# Altium footprint library 0603 - LED.PcbLib: 1 footprints
Each footprint in its own frame and in the unit in brackets; x right, y up, seen from the top. Pads: shape width x height; smd on the part's side, far side on the other; paste and mask are expansions set on the pad; w line width, h text height; cw(c..) or ccw(c..) is an arc to the next point about the centre after c.
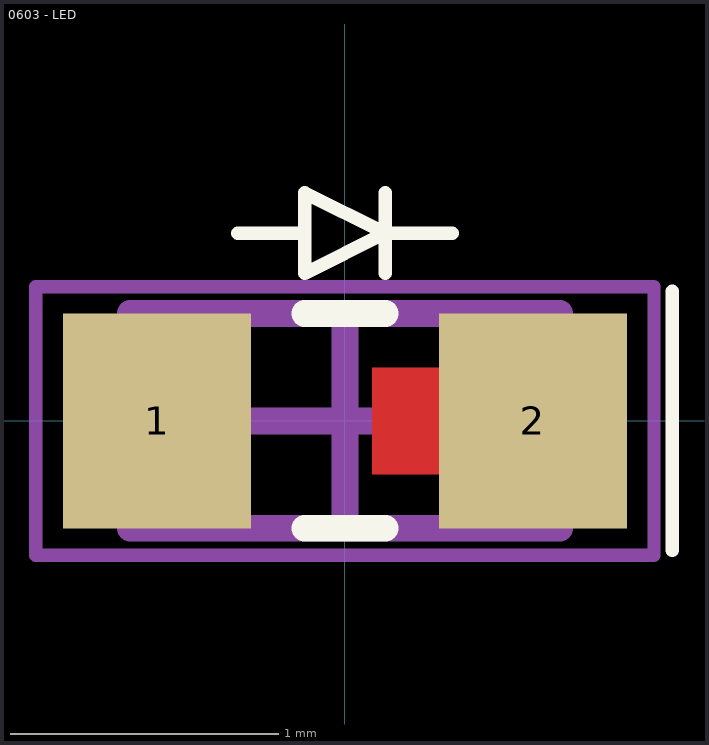
[diagram p0: the footprint, top view; thin cyan lines are the x and y axes]

## 0603 - LED [mm]
pads (2):
  rect 0.7x0.8 smd: 1(-0.7,0) 2(0.7,0)
Top Layer:
  rectangle: 0.1,-0.2 0.355,0.2
Top Overlay:
  lines w0.05: -0.4,0.7 -0.15,0.7 ; 0.15,0.55 0.15,0.85 ; 0.4,0.7 0.15,0.7 ; 1.219,-0.483 1.219,0.483 ; 0.15,0.7 -0.15,0.85 -0.15,0.55 0.15,0.7
  lines w0.1: -0.15,-0.4 0.15,-0.4 ; -0.15,0.4 0.15,0.4
Mechanical 13:
  lines w0.1: -0.8,-0.4 0.8,-0.4 0.8,0.4 -0.8,0.4 -0.8,-0.4
Mechanical 15:
  lines w0.05: -1.152,-0.5 1.151,-0.5 1.151,0.5 -1.152,0.5 -1.152,-0.5
  lines w0.1: -0.4,0 0.4,0 ; 0,-0.4 0,0.4
3D body "0603 - LED.STEP": height 0.65, standoff 0, extent -0.8,-0.4 0.8,0.4